# Altium integrated library TI_Logic_Specialty_Logic.IntLib: 2504 symbols (part 7 of 81)
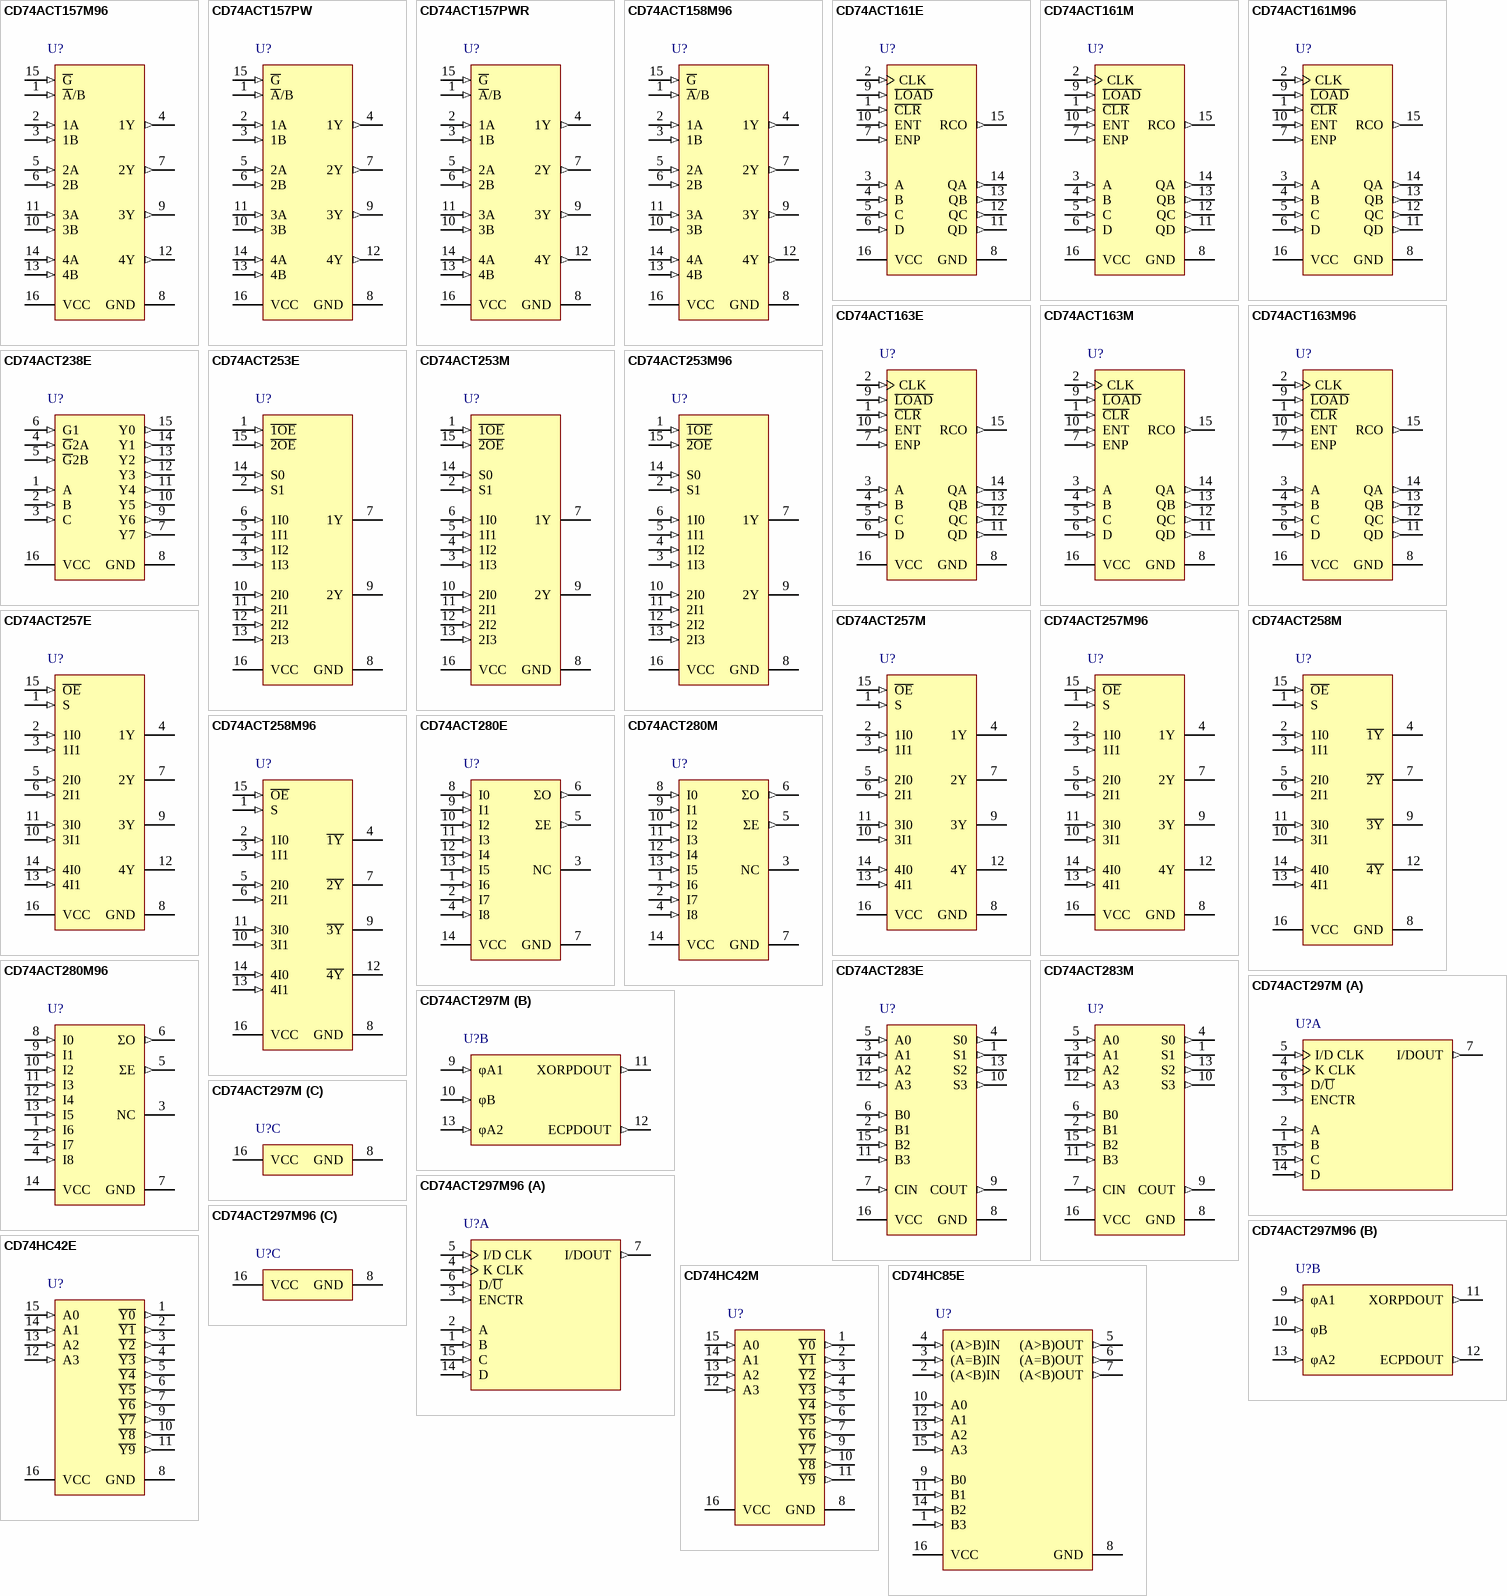
[diagram p110: symbols CD74ACT157M96 to CD74HC85E]

## CD74ACT253E
designator U?
Dual 4-Input Multiplexers with 3-State Outputs, N0016A, TUBE; Generic Part Number: CD74ACT253; Manufacturer: Texas Instruments; PartNumber: CD74ACT253E; VCC(Min)(V): 4.5; VCC(Max)(V): 5.5; Output Type: CMOS; Function: Encoder/Multiplexer; ICC @ Nom Voltage(Max)(mA): 0.08; Input Type: TTL; Bits(#): 4; F @ Nom Voltage(Max)(Mhz): 90; Configuration: 4：1; Channels(#): 2; Rating: Catalog; Technology Family: ACT; Voltage(Nom)(V): 5; Schmitt Trigger: No; Output Drive (IOL/IOH)(Max)(mA): 24/-24; tpd @ Nom Voltage(Max)(ns): 20; DatasheetVersion: SCHS247A; PackageReference: N0016A; Supplier 1: Mouser; Supplier Part Number 1: 595-CD74ACT253E; Supplier 2: Digi-Key; Supplier Part Number 2: 296-32992-5-ND; Operating Temperature Range(C): -55 to 125; Type: 3-State Output; Code_JEDEC: MS-001; ComponentLink1Description: Manufacturer URL; ComponentLink1URL: http://www.ti.com/; ComponentLink2Description: Datasheet; ComponentLink2URL: http://www.ti.com/lit/ds/symlink/cd74act253.pdf; ComponentLink3Description: Package Specification; ComponentLink3URL: http://www.ti.com/lit/ml/mpdi002c/mpdi002c.pdf
footprint N0016A (DIP, 16-Leads, Body 19.7x6.6mm, Pitch 2.54mm)
pins: 1 ~{1OE} (in), 2 S1 (in), 3 1I3 (in), 4 1I2 (in), 5 1I1 (in), 6 1I0 (in), 7 1Y (hiz), 8 GND (power), 9 2Y (hiz), 10 2I0 (in), 11 2I1 (in), 12 2I2 (in), 13 2I3 (in), 14 S0 (in), 15 ~{2OE} (in), 16 VCC (power)

## CD74ACT253M
designator U?
Dual 4-Input Multiplexers with 3-State Outputs, D0016A, TUBE; Generic Part Number: CD74ACT253; Manufacturer: Texas Instruments; PartNumber: CD74ACT253M; VCC(Min)(V): 4.5; VCC(Max)(V): 5.5; Output Type: CMOS; Function: Encoder/Multiplexer; ICC @ Nom Voltage(Max)(mA): 0.08; Input Type: TTL; Bits(#): 4; F @ Nom Voltage(Max)(Mhz): 90; Configuration: 4：1; Channels(#): 2; Rating: Catalog; Technology Family: ACT; Voltage(Nom)(V): 5; Schmitt Trigger: No; Output Drive (IOL/IOH)(Max)(mA): 24/-24; tpd @ Nom Voltage(Max)(ns): 20; DatasheetVersion: SCHS247A; PackageReference: D0016A; Supplier 1: Mouser; Supplier Part Number 1: 595-CD74ACT253M; Supplier 2: Digi-Key; Supplier Part Number 2: 296-23204-5-ND; Operating Temperature Range(C): -55 to 125; Type: 3-State Output; Code_JEDEC: MS-012 variation AC; ComponentLink1Description: Manufacturer URL; ComponentLink1URL: http://www.ti.com/; ComponentLink2Description: Datasheet; ComponentLink2URL: http://www.ti.com/lit/ds/symlink/cd74act253.pdf; ComponentLink3Description: Package Specification; ComponentLink3URL: http://www.ti.com/lit/ml/mpds178g/mpds178g.pdf
footprint D0016A_N (SOIC, 16-Leads, Body 10x4mm, Pitch 1.27mm, IPC Medium Density)
footprint D0016A_M (SOIC, 16-Leads, Body 10x4mm, Pitch 1.27mm, IPC Low Density)
footprint D0016A_L (SOIC, 16-Leads, Body 10x4mm, Pitch 1.27mm, IPC High Density)
pins: 1 ~{1OE} (in), 2 S1 (in), 3 1I3 (in), 4 1I2 (in), 5 1I1 (in), 6 1I0 (in), 7 1Y (hiz), 8 GND (power), 9 2Y (hiz), 10 2I0 (in), 11 2I1 (in), 12 2I2 (in), 13 2I3 (in), 14 S0 (in), 15 ~{2OE} (in), 16 VCC (power)

## CD74ACT253M96
designator U?
Dual 4-Input Multiplexers with 3-State Outputs, D0016A, LARGE T&R; Generic Part Number: CD74ACT253; Manufacturer: Texas Instruments; PartNumber: CD74ACT253M96; VCC(Min)(V): 4.5; VCC(Max)(V): 5.5; Output Type: CMOS; Function: Encoder/Multiplexer; ICC @ Nom Voltage(Max)(mA): 0.08; Input Type: TTL; Bits(#): 4; F @ Nom Voltage(Max)(Mhz): 90; Configuration: 4：1; Channels(#): 2; Rating: Catalog; Technology Family: ACT; Voltage(Nom)(V): 5; Schmitt Trigger: No; Output Drive (IOL/IOH)(Max)(mA): 24/-24; tpd @ Nom Voltage(Max)(ns): 20; DatasheetVersion: SCHS247A; PackageReference: D0016A; Supplier 1: Mouser; Supplier Part Number 1: 595-CD74ACT253M96; Supplier 2: Digi-Key; Supplier Part Number 2: CD74ACT253M96-ND; Operating Temperature Range(C): -55 to 125; Type: 3-State Output; Code_JEDEC: MS-012 variation AC; ComponentLink1Description: Manufacturer URL; ComponentLink1URL: http://www.ti.com/; ComponentLink2Description: Datasheet; ComponentLink2URL: http://www.ti.com/lit/ds/symlink/cd74act253.pdf; ComponentLink3Description: Package Specification; ComponentLink3URL: http://www.ti.com/lit/ml/mpds178g/mpds178g.pdf
footprint D0016A_N (SOIC, 16-Leads, Body 10x4mm, Pitch 1.27mm, IPC Medium Density)
footprint D0016A_M (SOIC, 16-Leads, Body 10x4mm, Pitch 1.27mm, IPC Low Density)
footprint D0016A_L (SOIC, 16-Leads, Body 10x4mm, Pitch 1.27mm, IPC High Density)
pins: 1 ~{1OE} (in), 2 S1 (in), 3 1I3 (in), 4 1I2 (in), 5 1I1 (in), 6 1I0 (in), 7 1Y (hiz), 8 GND (power), 9 2Y (hiz), 10 2I0 (in), 11 2I1 (in), 12 2I2 (in), 13 2I3 (in), 14 S0 (in), 15 ~{2OE} (in), 16 VCC (power)

## CD74ACT257E
designator U?
Quad 2-Input Non-Inverting Multiplexers with 3-State Outputs, N0016A, TUBE; Generic Part Number: CD74ACT257; Manufacturer: Texas Instruments; PartNumber: CD74ACT257E; VCC(Min)(V): 4.5; VCC(Max)(V): 5.5; Output Type: CMOS; Function: Encoder/Multiplexer; ICC @ Nom Voltage(Max)(mA): 0.08; Input Type: TTL; Bits(#): 2; F @ Nom Voltage(Max)(Mhz): 90; Configuration: 2：1; Channels(#): 4; Rating: Catalog; Technology Family: ACT; Voltage(Nom)(V): 5; Schmitt Trigger: No; Output Drive (IOL/IOH)(Max)(mA): 24/-24; tpd @ Nom Voltage(Max)(ns): 9.7; DatasheetVersion: SCHS248A; PackageReference: N0016A; Supplier 1: Mouser; Supplier Part Number 1: 595-CD74ACT257E; Supplier 2: Digi-Key; Supplier Part Number 2: 296-32993-5-ND; Operating Temperature Range(C): -55 to 125; Type: 3-State Output; Code_JEDEC: MS-001; ComponentLink1Description: Manufacturer URL; ComponentLink1URL: http://www.ti.com/; ComponentLink2Description: Datasheet; ComponentLink2URL: http://www.ti.com/lit/ds/symlink/cd74act257.pdf; ComponentLink3Description: Package Specification; ComponentLink3URL: http://www.ti.com/lit/ml/mpdi002c/mpdi002c.pdf
footprint N0016A (DIP, 16-Leads, Body 19.7x6.6mm, Pitch 2.54mm)
pins: 1 S (in), 2 1I0 (in), 3 1I1 (in), 4 1Y (hiz), 5 2I0 (in), 6 2I1 (in), 7 2Y (hiz), 8 GND (power), 9 3Y (hiz), 10 3I1 (in), 11 3I0 (in), 12 4Y (hiz), 13 4I1 (in), 14 4I0 (in), 15 ~{OE} (in), 16 VCC (power)

## CD74ACT257M
designator U?
Quad 2-Input Non-Inverting Multiplexers with 3-State Outputs, D0016A, TUBE; Generic Part Number: CD74ACT257; Manufacturer: Texas Instruments; PartNumber: CD74ACT257M; VCC(Min)(V): 4.5; VCC(Max)(V): 5.5; Output Type: CMOS; Function: Encoder/Multiplexer; ICC @ Nom Voltage(Max)(mA): 0.08; Input Type: TTL; Bits(#): 2; F @ Nom Voltage(Max)(Mhz): 90; Configuration: 2：1; Channels(#): 4; Rating: Catalog; Technology Family: ACT; Voltage(Nom)(V): 5; Schmitt Trigger: No; Output Drive (IOL/IOH)(Max)(mA): 24/-24; tpd @ Nom Voltage(Max)(ns): 9.7; DatasheetVersion: SCHS248A; PackageReference: D0016A; Supplier 1: Mouser; Supplier Part Number 1: 595-CD74ACT257M; Supplier 2: Digi-Key; Supplier Part Number 2: 296-32994-5-ND; Operating Temperature Range(C): -55 to 125; Type: 3-State Output; Code_JEDEC: MS-012 variation AC; ComponentLink1Description: Manufacturer URL; ComponentLink1URL: http://www.ti.com/; ComponentLink2Description: Datasheet; ComponentLink2URL: http://www.ti.com/lit/ds/symlink/cd74act257.pdf; ComponentLink3Description: Package Specification; ComponentLink3URL: http://www.ti.com/lit/ml/mpds178g/mpds178g.pdf
footprint D0016A_N (SOIC, 16-Leads, Body 10x4mm, Pitch 1.27mm, IPC Medium Density)
footprint D0016A_M (SOIC, 16-Leads, Body 10x4mm, Pitch 1.27mm, IPC Low Density)
footprint D0016A_L (SOIC, 16-Leads, Body 10x4mm, Pitch 1.27mm, IPC High Density)
pins: 1 S (in), 2 1I0 (in), 3 1I1 (in), 4 1Y (hiz), 5 2I0 (in), 6 2I1 (in), 7 2Y (hiz), 8 GND (power), 9 3Y (hiz), 10 3I1 (in), 11 3I0 (in), 12 4Y (hiz), 13 4I1 (in), 14 4I0 (in), 15 ~{OE} (in), 16 VCC (power)

## CD74ACT257M96
designator U?
Quad 2-Input Non-Inverting Multiplexers with 3-State Outputs, D0016A, LARGE T&R; Generic Part Number: CD74ACT257; Manufacturer: Texas Instruments; PartNumber: CD74ACT257M96; VCC(Min)(V): 4.5; VCC(Max)(V): 5.5; Output Type: CMOS; Function: Encoder/Multiplexer; ICC @ Nom Voltage(Max)(mA): 0.08; Input Type: TTL; Bits(#): 2; F @ Nom Voltage(Max)(Mhz): 90; Configuration: 2：1; Channels(#): 4; Rating: Catalog; Technology Family: ACT; Voltage(Nom)(V): 5; Schmitt Trigger: No; Output Drive (IOL/IOH)(Max)(mA): 24/-24; tpd @ Nom Voltage(Max)(ns): 9.7; DatasheetVersion: SCHS248A; PackageReference: D0016A; Supplier 1: Mouser; Supplier Part Number 1: 595-CD74ACT257M96; Supplier 2: Digi-Key; Supplier Part Number 2: 296-31554-2-ND; Supplier 3: Digi-Key; Supplier Part Number 3: 296-31554-1-ND; Supplier 4: Digi-Key; Supplier Part Number 4: 296-31554-6-ND; Operating Temperature Range(C): -55 to 125; Type: 3-State Output; Code_JEDEC: MS-012 variation AC; ComponentLink1Description: Manufacturer URL; ComponentLink1URL: http://www.ti.com/; ComponentLink2Description: Datasheet; ComponentLink2URL: http://www.ti.com/lit/ds/symlink/cd74act257.pdf; ComponentLink3Description: Package Specification; ComponentLink3URL: http://www.ti.com/lit/ml/mpds178g/mpds178g.pdf
footprint D0016A_N (SOIC, 16-Leads, Body 10x4mm, Pitch 1.27mm, IPC Medium Density)
footprint D0016A_M (SOIC, 16-Leads, Body 10x4mm, Pitch 1.27mm, IPC Low Density)
footprint D0016A_L (SOIC, 16-Leads, Body 10x4mm, Pitch 1.27mm, IPC High Density)
pins: 1 S (in), 2 1I0 (in), 3 1I1 (in), 4 1Y (hiz), 5 2I0 (in), 6 2I1 (in), 7 2Y (hiz), 8 GND (power), 9 3Y (hiz), 10 3I1 (in), 11 3I0 (in), 12 4Y (hiz), 13 4I1 (in), 14 4I0 (in), 15 ~{OE} (in), 16 VCC (power)

## CD74ACT258M
designator U?
Quad 2-Input Inverting Multiplexers with 3-State Outputs, D0016A, TUBE; Generic Part Number: CD74ACT258; Manufacturer: Texas Instruments; PartNumber: CD74ACT258M; VCC(Min)(V): 4.5; VCC(Max)(V): 5.5; Output Type: CMOS; Function: Encoder/Multiplexer; ICC @ Nom Voltage(Max)(mA): 0.08; Input Type: TTL; Bits(#): 2; F @ Nom Voltage(Max)(Mhz): 90; Configuration: 2：1; Channels(#): 4; Rating: Catalog; Technology Family: ACT; Voltage(Nom)(V): 5; Schmitt Trigger: No; Output Drive (IOL/IOH)(Max)(mA): 24/-24; tpd @ Nom Voltage(Max)(ns): 9.7; DatasheetVersion: SCHS248A; PackageReference: D0016A; Supplier 1: Mouser; Supplier Part Number 1: 595-CD74ACT258M; Supplier 2: Digi-Key; Supplier Part Number 2: CD74ACT258M-ND; Operating Temperature Range(C): -55 to 125; Type: 3-State Output; Code_JEDEC: MS-012 variation AC; ComponentLink1Description: Manufacturer URL; ComponentLink1URL: http://www.ti.com/; ComponentLink2Description: Datasheet; ComponentLink2URL: http://www.ti.com/lit/ds/symlink/cd74act258.pdf; ComponentLink3Description: Package Specification; ComponentLink3URL: http://www.ti.com/lit/ml/mpds178g/mpds178g.pdf
footprint D0016A_N (SOIC, 16-Leads, Body 10x4mm, Pitch 1.27mm, IPC Medium Density)
footprint D0016A_M (SOIC, 16-Leads, Body 10x4mm, Pitch 1.27mm, IPC Low Density)
footprint D0016A_L (SOIC, 16-Leads, Body 10x4mm, Pitch 1.27mm, IPC High Density)
pins: 1 S (in), 2 1I0 (in), 3 1I1 (in), 4 ~{1Y} (hiz), 5 2I0 (in), 6 2I1 (in), 7 ~{2Y} (hiz), 8 GND (power), 9 ~{3Y} (hiz), 10 3I1 (in), 11 3I0 (in), 12 ~{4Y} (hiz), 13 4I1 (in), 14 4I0 (in), 15 ~{OE} (in), 16 VCC (power)

## CD74ACT258M96
designator U?
Quad 2-Input Inverting Multiplexers with 3-State Outputs, D0016A, LARGE T&R; Generic Part Number: CD74ACT258; Manufacturer: Texas Instruments; PartNumber: CD74ACT258M96; VCC(Min)(V): 4.5; VCC(Max)(V): 5.5; Output Type: CMOS; Function: Encoder/Multiplexer; ICC @ Nom Voltage(Max)(mA): 0.08; Input Type: TTL; Bits(#): 2; F @ Nom Voltage(Max)(Mhz): 90; Configuration: 2：1; Channels(#): 4; Rating: Catalog; Technology Family: ACT; Voltage(Nom)(V): 5; Schmitt Trigger: No; Output Drive (IOL/IOH)(Max)(mA): 24/-24; tpd @ Nom Voltage(Max)(ns): 9.7; DatasheetVersion: SCHS248A; PackageReference: D0016A; Supplier 1: Mouser; Supplier Part Number 1: 595-CD74ACT258M96; Supplier 2: Digi-Key; Supplier Part Number 2: 296-38063-2-ND; Supplier 3: Digi-Key; Supplier Part Number 3: 296-38063-1-ND; Supplier 4: Digi-Key; Supplier Part Number 4: 296-38063-6-ND; Operating Temperature Range(C): -55 to 125; Type: 3-State Output; Code_JEDEC: MS-012 variation AC; ComponentLink1Description: Manufacturer URL; ComponentLink1URL: http://www.ti.com/; ComponentLink2Description: Datasheet; ComponentLink2URL: http://www.ti.com/lit/ds/symlink/cd74act258.pdf; ComponentLink3Description: Package Specification; ComponentLink3URL: http://www.ti.com/lit/ml/mpds178g/mpds178g.pdf
footprint D0016A_N (SOIC, 16-Leads, Body 10x4mm, Pitch 1.27mm, IPC Medium Density)
footprint D0016A_M (SOIC, 16-Leads, Body 10x4mm, Pitch 1.27mm, IPC Low Density)
footprint D0016A_L (SOIC, 16-Leads, Body 10x4mm, Pitch 1.27mm, IPC High Density)
pins: 1 S (in), 2 1I0 (in), 3 1I1 (in), 4 ~{1Y} (hiz), 5 2I0 (in), 6 2I1 (in), 7 ~{2Y} (hiz), 8 GND (power), 9 ~{3Y} (hiz), 10 3I1 (in), 11 3I0 (in), 12 ~{4Y} (hiz), 13 4I1 (in), 14 4I0 (in), 15 ~{OE} (in), 16 VCC (power)

## CD74ACT280E
designator U?
9-Bit Odd/Even Parity Generator/Checker, N0014A, TUBE; Generic Part Number: CD74ACT280; Manufacturer: Texas Instruments; PartNumber: CD74ACT280E; VCC(Min)(V): 4.5; VCC(Max)(V): 5.5; Output Type: CMOS; Inputs: 9; ICC @ Nom Voltage(Max)(mA): 0.08; Input Type: TTL; Bits(#): 2; F @ Nom Voltage(Max)(Mhz): 90; Rating: Catalog; Technology Family: ACT; Voltage(Nom)(V): 5; Schmitt Trigger: No; Output Drive (IOL/IOH)(Max)(mA): 75/-75; tpd @ Nom Voltage(Max)(ns): 19.6; DatasheetVersion: SCHS250A; PackageReference: N0014A; Supplier 1: Mouser; Supplier Part Number 1: 595-CD74ACT280E; Supplier 2: Digi-Key; Supplier Part Number 2: CD74ACT280E-ND; Function: Parity; Operating Temperature Range(C): -55 to 125; Type: Other; Code_JEDEC: MS-001; ComponentLink1Description: Manufacturer URL; ComponentLink1URL: http://www.ti.com/; ComponentLink2Description: Datasheet; ComponentLink2URL: http://www.ti.com/lit/ds/symlink/cd74act280.pdf; ComponentLink3Description: Package Specification; ComponentLink3URL: http://www.ti.com/lit/ml/mpdi002c/mpdi002c.pdf
footprint N0014A (DIP, 14-Leads, Body 19.7x6.6mm, Pitch 2.54mm)
pins: 1 I6 (in), 2 I7 (in), 3 NC, 4 I8 (in), 5 ΣE (out), 6 ΣO (out), 7 GND (power), 8 I0 (in), 9 I1 (in), 10 I2 (in), 11 I3 (in), 12 I4 (in), 13 I5 (in), 14 VCC (power)

## CD74ACT280M
designator U?
9-Bit Odd/Even Parity Generator/Checker, D0014A, TUBE; Generic Part Number: CD74ACT280; Manufacturer: Texas Instruments; PartNumber: CD74ACT280M; VCC(Min)(V): 4.5; VCC(Max)(V): 5.5; Output Type: CMOS; Inputs: 9; ICC @ Nom Voltage(Max)(mA): 0.08; Input Type: TTL; Bits(#): 2; F @ Nom Voltage(Max)(Mhz): 90; Rating: Catalog; Technology Family: ACT; Voltage(Nom)(V): 5; Schmitt Trigger: No; Output Drive (IOL/IOH)(Max)(mA): 75/-75; tpd @ Nom Voltage(Max)(ns): 19.6; DatasheetVersion: SCHS250A; PackageReference: D0014A; Supplier 1: Mouser; Supplier Part Number 1: 595-CD74ACT280M; Supplier 2: Digi-Key; Supplier Part Number 2: CD74ACT280M-ND; Function: Parity; Operating Temperature Range(C): -55 to 125; Type: Other; Code_JEDEC: MS-012; ComponentLink1Description: Manufacturer URL; ComponentLink1URL: http://www.ti.com/; ComponentLink2Description: Datasheet; ComponentLink2URL: http://www.ti.com/lit/ds/symlink/cd74act280.pdf; ComponentLink3Description: Package Specification; ComponentLink3URL: http://www.ti.com/lit/ml/mpds177g/mpds177g.pdf
footprint D0014A_N (SOIC, 14-Leads, Body 8.75x4mm, Pitch 1.27mm, IPC Medium Density)
footprint D0014A_M (SOIC, 14-Leads, Body 8.75x4mm, Pitch 1.27mm, IPC Low Density)
footprint D0014A_L (SOIC, 14-Leads, Body 8.75x4mm, Pitch 1.27mm, IPC High Density)
pins: 1 I6 (in), 2 I7 (in), 3 NC, 4 I8 (in), 5 ΣE (out), 6 ΣO (out), 7 GND (power), 8 I0 (in), 9 I1 (in), 10 I2 (in), 11 I3 (in), 12 I4 (in), 13 I5 (in), 14 VCC (power)

## CD74ACT280M96
designator U?
9-Bit Odd/Even Parity Generator/Checker, D0014A, LARGE T&R; Generic Part Number: CD74ACT280; Manufacturer: Texas Instruments; PartNumber: CD74ACT280M96; VCC(Min)(V): 4.5; VCC(Max)(V): 5.5; Output Type: CMOS; Inputs: 9; ICC @ Nom Voltage(Max)(mA): 0.08; Input Type: TTL; Bits(#): 2; F @ Nom Voltage(Max)(Mhz): 90; Rating: Catalog; Technology Family: ACT; Voltage(Nom)(V): 5; Schmitt Trigger: No; Output Drive (IOL/IOH)(Max)(mA): 75/-75; tpd @ Nom Voltage(Max)(ns): 19.6; DatasheetVersion: SCHS250A; PackageReference: D0014A; Supplier 1: Mouser; Supplier Part Number 1: 595-CD74ACT280M96; Supplier 2: Digi-Key; Supplier Part Number 2: 296-12768-2-ND; Supplier 3: Digi-Key; Supplier Part Number 3: 296-12768-1-ND; Supplier 4: Digi-Key; Supplier Part Number 4: 296-12768-6-ND; Function: Parity; Operating Temperature Range(C): -55 to 125; Type: Other; Code_JEDEC: MS-012; ComponentLink1Description: Manufacturer URL; ComponentLink1URL: http://www.ti.com/; ComponentLink2Description: Datasheet; ComponentLink2URL: http://www.ti.com/lit/ds/symlink/cd74act280.pdf; ComponentLink3Description: Package Specification; ComponentLink3URL: http://www.ti.com/lit/ml/mpds177g/mpds177g.pdf
footprint D0014A_N (SOIC, 14-Leads, Body 8.75x4mm, Pitch 1.27mm, IPC Medium Density)
footprint D0014A_M (SOIC, 14-Leads, Body 8.75x4mm, Pitch 1.27mm, IPC Low Density)
footprint D0014A_L (SOIC, 14-Leads, Body 8.75x4mm, Pitch 1.27mm, IPC High Density)
pins: 1 I6 (in), 2 I7 (in), 3 NC, 4 I8 (in), 5 ΣE (out), 6 ΣO (out), 7 GND (power), 8 I0 (in), 9 I1 (in), 10 I2 (in), 11 I3 (in), 12 I4 (in), 13 I5 (in), 14 VCC (power)

## CD74ACT283E
designator U?
4-Bit Binary Full Adder with Fast Carry, N0016A, TUBE; Generic Part Number: CD74ACT283; Manufacturer: Texas Instruments; PartNumber: CD74ACT283E; VCC(Min)(V): 4.5; VCC(Max)(V): 5.5; Output Type: CMOS; Inputs: 9; Function: Arithmetic; ICC @ Nom Voltage(Max)(mA): 0.08; Input Type: TTL; Bits(#): 4; F @ Nom Voltage(Max)(Mhz): 90; Rating: Catalog; Technology Family: ACT; Voltage(Nom)(V): 5; Schmitt Trigger: No; Output Drive (IOL/IOH)(Max)(mA): 75/-75; tpd @ Nom Voltage(Max)(ns): 16; DatasheetVersion: SCHS251D; PackageReference: N0016A; Supplier 1: Mouser; Supplier Part Number 1: 595-CD74ACT283E; Supplier 2: Digi-Key; Supplier Part Number 2: 296-4275-5-ND; Operating Temperature Range(C): -55 to 125; Type: Binary; Code_JEDEC: MS-001; ComponentLink1Description: Manufacturer URL; ComponentLink1URL: http://www.ti.com/; ComponentLink2Description: Datasheet; ComponentLink2URL: http://www.ti.com/lit/ds/symlink/cd74act283.pdf; ComponentLink3Description: Package Specification; ComponentLink3URL: http://www.ti.com/lit/ml/mpdi002c/mpdi002c.pdf
footprint N0016A (DIP, 16-Leads, Body 19.7x6.6mm, Pitch 2.54mm)
pins: 1 S1 (out), 2 B1 (in), 3 A1 (in), 4 S0 (out), 5 A0 (in), 6 B0 (in), 7 CIN (in), 8 GND (power), 9 COUT (out), 10 S3 (out), 11 B3 (in), 12 A3 (in), 13 S2 (out), 14 A2 (in), 15 B2 (in), 16 VCC (power)

## CD74ACT283M
designator U?
4-Bit Binary Full Adder with Fast Carry, D0016A, TUBE; Generic Part Number: CD74ACT283; Manufacturer: Texas Instruments; PartNumber: CD74ACT283M; VCC(Min)(V): 4.5; VCC(Max)(V): 5.5; Output Type: CMOS; Inputs: 9; Function: Arithmetic; ICC @ Nom Voltage(Max)(mA): 0.08; Input Type: TTL; Bits(#): 4; F @ Nom Voltage(Max)(Mhz): 90; Rating: Catalog; Technology Family: ACT; Voltage(Nom)(V): 5; Schmitt Trigger: No; Output Drive (IOL/IOH)(Max)(mA): 75/-75; tpd @ Nom Voltage(Max)(ns): 16; DatasheetVersion: SCHS251D; PackageReference: D0016A; Supplier 1: Mouser; Supplier Part Number 1: 595-CD74ACT283M; Supplier 2: Digi-Key; Supplier Part Number 2: 296-32996-5-ND; Operating Temperature Range(C): -55 to 125; Type: Binary; Code_JEDEC: MS-012 variation AC; ComponentLink1Description: Manufacturer URL; ComponentLink1URL: http://www.ti.com/; ComponentLink2Description: Datasheet; ComponentLink2URL: http://www.ti.com/lit/ds/symlink/cd74act283.pdf; ComponentLink3Description: Package Specification; ComponentLink3URL: http://www.ti.com/lit/ml/mpds178g/mpds178g.pdf
footprint D0016A_N (SOIC, 16-Leads, Body 10x4mm, Pitch 1.27mm, IPC Medium Density)
footprint D0016A_M (SOIC, 16-Leads, Body 10x4mm, Pitch 1.27mm, IPC Low Density)
footprint D0016A_L (SOIC, 16-Leads, Body 10x4mm, Pitch 1.27mm, IPC High Density)
pins: 1 S1 (out), 2 B1 (in), 3 A1 (in), 4 S0 (out), 5 A0 (in), 6 B0 (in), 7 CIN (in), 8 GND (power), 9 COUT (out), 10 S3 (out), 11 B3 (in), 12 A3 (in), 13 S2 (out), 14 A2 (in), 15 B2 (in), 16 VCC (power)

## CD74ACT297M
designator U?
Digital Phase-Locked-Loop, D0016A, TUBE; Generic Part Number: CD74ACT297; Manufacturer: Texas Instruments; PartNumber: CD74ACT297M; VCC(Min)(V): 4.5; VCC(Max)(V): 5.5; Output Type: CMOS; ICC @ Nom Voltage(Max)(mA): 0.08; Input Type: TTL; Bits(#): 1; F @ Nom Voltage(Max)(Mhz): 90; Rating: Catalog; Technology Family: ACT; Voltage(Nom)(V): 5; Schmitt Trigger: No; Output Drive (IOL/IOH)(Max)(mA): 75/-75; tpd @ Nom Voltage(Max)(ns): 30; DatasheetVersion: SCHS297D; PackageReference: D0016A; Supplier 1: Mouser; Supplier Part Number 1: 595-CD74ACT297M; Supplier 2: Digi-Key; Supplier Part Number 2: 296-4276-5-ND; Operating Temperature Range(C): -55 to 125; ComponentLink1Description: Manufacturer URL; ComponentLink1URL: http://www.ti.com/; ComponentLink2Description: Datasheet; ComponentLink2URL: http://www.ti.com/lit/ds/symlink/cd74act297.pdf
footprint D0016A_N (SOIC, 16-Leads, Body 10x4mm, Pitch 1.27mm, IPC Medium Density)
footprint D0016A_M (SOIC, 16-Leads, Body 10x4mm, Pitch 1.27mm, IPC Low Density)
footprint D0016A_L (SOIC, 16-Leads, Body 10x4mm, Pitch 1.27mm, IPC High Density)
part A pins: 1 B (in), 2 A (in), 3 ENCTR (in), 4 K CLK (in), 5 I/D CLK (in), 6 D/~{U} (in), 7 I/DOUT (out), 14 D (in), 15 C (in)
part B pins: 9 φA1 (in), 10 φB (in), 11 XORPDOUT (out), 12 ECPDOUT (out), 13 φA2 (in)
part C pins: 8 GND (power), 16 VCC (power)

## CD74ACT297M96
designator U?
Digital Phase-Locked-Loop, D0016A, LARGE T&R; Generic Part Number: CD74ACT297; Manufacturer: Texas Instruments; PartNumber: CD74ACT297M96; VCC(Min)(V): 4.5; VCC(Max)(V): 5.5; Output Type: CMOS; ICC @ Nom Voltage(Max)(mA): 0.08; Input Type: TTL; Bits(#): 1; F @ Nom Voltage(Max)(Mhz): 90; Rating: Catalog; Technology Family: ACT; Voltage(Nom)(V): 5; Schmitt Trigger: No; Output Drive (IOL/IOH)(Max)(mA): 75/-75; tpd @ Nom Voltage(Max)(ns): 30; DatasheetVersion: SCHS297D; PackageReference: D0016A; Supplier 1: Mouser; Supplier Part Number 1: 595-CD74ACT297M96; Supplier 2: Digi-Key; Supplier Part Number 2: CD74ACT297M96-ND; Operating Temperature Range(C): -55 to 125; ComponentLink1Description: Manufacturer URL; ComponentLink1URL: http://www.ti.com/; ComponentLink2Description: Datasheet; ComponentLink2URL: http://www.ti.com/lit/ds/symlink/cd74act297.pdf
footprint D0016A_N (SOIC, 16-Leads, Body 10x4mm, Pitch 1.27mm, IPC Medium Density)
footprint D0016A_M (SOIC, 16-Leads, Body 10x4mm, Pitch 1.27mm, IPC Low Density)
footprint D0016A_L (SOIC, 16-Leads, Body 10x4mm, Pitch 1.27mm, IPC High Density)
part A pins: 1 B (in), 2 A (in), 3 ENCTR (in), 4 K CLK (in), 5 I/D CLK (in), 6 D/~{U} (in), 7 I/DOUT (out), 14 D (in), 15 C (in)
part B pins: 9 φA1 (in), 10 φB (in), 11 XORPDOUT (out), 12 ECPDOUT (out), 13 φA2 (in)
part C pins: 8 GND (power), 16 VCC (power)

## CD74HC42E
designator U?
High Speed CMOS Logic 1-of-10 BCD to Decimal Decoder, N0016A, TUBE; Generic Part Number: CD74HC42; Manufacturer: Texas Instruments; PartNumber: CD74HC42E; VCC(Min)(V): 2; VCC(Max)(V): 6; Function: Decoder/Demultiplexer; ICC @ Nom Voltage(Max)(mA): 0.08; Input Type: LVTTL/CMOS; Bits(#): 10; F @ Nom Voltage(Max)(Mhz): 28; Configuration: 4：10; Channels(#): 1; Rating: Catalog; Technology Family: HC; Voltage(Nom)(V): 3.3,5; Schmitt Trigger: No; Output Drive (IOL/IOH)(Max)(mA): 5.2/-5.2; tpd @ Nom Voltage(Max)(ns): 30; DatasheetVersion: SCHS133C; PackageReference: N0016A; Supplier 1: Mouser; Supplier Part Number 1: 595-CD74HC42E; Supplier 2: Digi-Key; Supplier Part Number 2: 296-33091-5-ND; Output Type: CMOS; Operating Temperature Range(C): -55 to 125; Type: Standard; Code_JEDEC: MS-001; ComponentLink1Description: Manufacturer URL; ComponentLink1URL: http://www.ti.com/; ComponentLink2Description: Datasheet; ComponentLink2URL: http://www.ti.com/lit/ds/symlink/cd74hc42.pdf; ComponentLink3Description: Package Specification; ComponentLink3URL: http://www.ti.com/lit/ml/mpdi002c/mpdi002c.pdf
footprint N0016A (DIP, 16-Leads, Body 19.7x6.6mm, Pitch 2.54mm)
pins: 1 ~{Y0} (out), 2 ~{Y1} (out), 3 ~{Y2} (out), 4 ~{Y3} (out), 5 ~{Y4} (out), 6 ~{Y5} (out), 7 ~{Y6} (out), 8 GND (power), 9 ~{Y7} (out), 10 ~{Y8} (out), 11 ~{Y9} (out), 12 A3 (in), 13 A2 (in), 14 A1 (in), 15 A0 (in), 16 VCC (power)

## CD74HC42M
designator U?
High Speed CMOS Logic 1-of-10 BCD to Decimal Decoder, D0016A, TUBE; Generic Part Number: CD74HC42; Manufacturer: Texas Instruments; PartNumber: CD74HC42M; VCC(Min)(V): 2; VCC(Max)(V): 6; Function: Decoder/Demultiplexer; ICC @ Nom Voltage(Max)(mA): 0.08; Input Type: LVTTL/CMOS; Bits(#): 10; F @ Nom Voltage(Max)(Mhz): 28; Configuration: 4：10; Channels(#): 1; Rating: Catalog; Technology Family: HC; Voltage(Nom)(V): 3.3,5; Schmitt Trigger: No; Output Drive (IOL/IOH)(Max)(mA): 5.2/-5.2; tpd @ Nom Voltage(Max)(ns): 30; DatasheetVersion: SCHS133C; PackageReference: D0016A; Supplier 1: Mouser; Supplier Part Number 1: 595-CD74HC42M; Supplier 2: Digi-Key; Supplier Part Number 2: 296-33092-5-ND; Output Type: CMOS; Operating Temperature Range(C): -55 to 125; Type: Standard; Code_JEDEC: MS-012 variation AC; ComponentLink1Description: Manufacturer URL; ComponentLink1URL: http://www.ti.com/; ComponentLink2Description: Datasheet; ComponentLink2URL: http://www.ti.com/lit/ds/symlink/cd74hc42.pdf; ComponentLink3Description: Package Specification; ComponentLink3URL: http://www.ti.com/lit/ml/mpds178g/mpds178g.pdf
footprint D0016A_N (SOIC, 16-Leads, Body 10x4mm, Pitch 1.27mm, IPC Medium Density)
footprint D0016A_M (SOIC, 16-Leads, Body 10x4mm, Pitch 1.27mm, IPC Low Density)
footprint D0016A_L (SOIC, 16-Leads, Body 10x4mm, Pitch 1.27mm, IPC High Density)
pins: 1 ~{Y0} (out), 2 ~{Y1} (out), 3 ~{Y2} (out), 4 ~{Y3} (out), 5 ~{Y4} (out), 6 ~{Y5} (out), 7 ~{Y6} (out), 8 GND (power), 9 ~{Y7} (out), 10 ~{Y8} (out), 11 ~{Y9} (out), 12 A3 (in), 13 A2 (in), 14 A1 (in), 15 A0 (in), 16 VCC (power)

## CD74HC85E
designator U?
4-Bit Magnitude Comparator, N0016A, TUBE; Generic Part Number: CD74HC85; Manufacturer: Texas Instruments; PartNumber: CD74HC85E; VCC(Min)(V): 2; VCC(Max)(V): 6; Output Type: CMOS; ICC @ Nom Voltage(Max)(mA): 0.08; Bits(#): 4; F @ Nom Voltage(Max)(Mhz): 70; Rating: Catalog; Technology Family: HC; Schmitt Trigger: No; Output Drive (IOL/IOH)(Max)(mA): 5.2/-5.2; tpd @ Nom Voltage(Max)(ns): 42; DatasheetVersion: SCHS136E; PackageReference: N0016A; Supplier 1: Mouser; Supplier Part Number 1: 595-CD74HC85E; Supplier 2: Digi-Key; Supplier Part Number 2: 296-12821-5-ND; Input Type: CMOS; Operating Temperature Range(C): -55 to 125; Voltage(Nom)(V): 6; ComponentLink1Description: Manufacturer URL; ComponentLink1URL: http://www.ti.com/; ComponentLink2Description: Datasheet; ComponentLink2URL: http://www.ti.com/lit/ds/symlink/cd74hc85.pdf
footprint N0016A (DIP, 16-Leads, Body 19.7x6.6mm, Pitch 2.54mm)
pins: 1 B3 (in), 2 (A<B)IN (in), 3 (A=B)IN (in), 4 (A>B)IN (in), 5 (A>B)OUT (out), 6 (A=B)OUT (out), 7 (A<B)OUT (out), 8 GND (power), 9 B0 (in), 10 A0 (in), 11 B1 (in), 12 A1 (in), 13 A2 (in), 14 B2 (in), 15 A3 (in), 16 VCC (power)

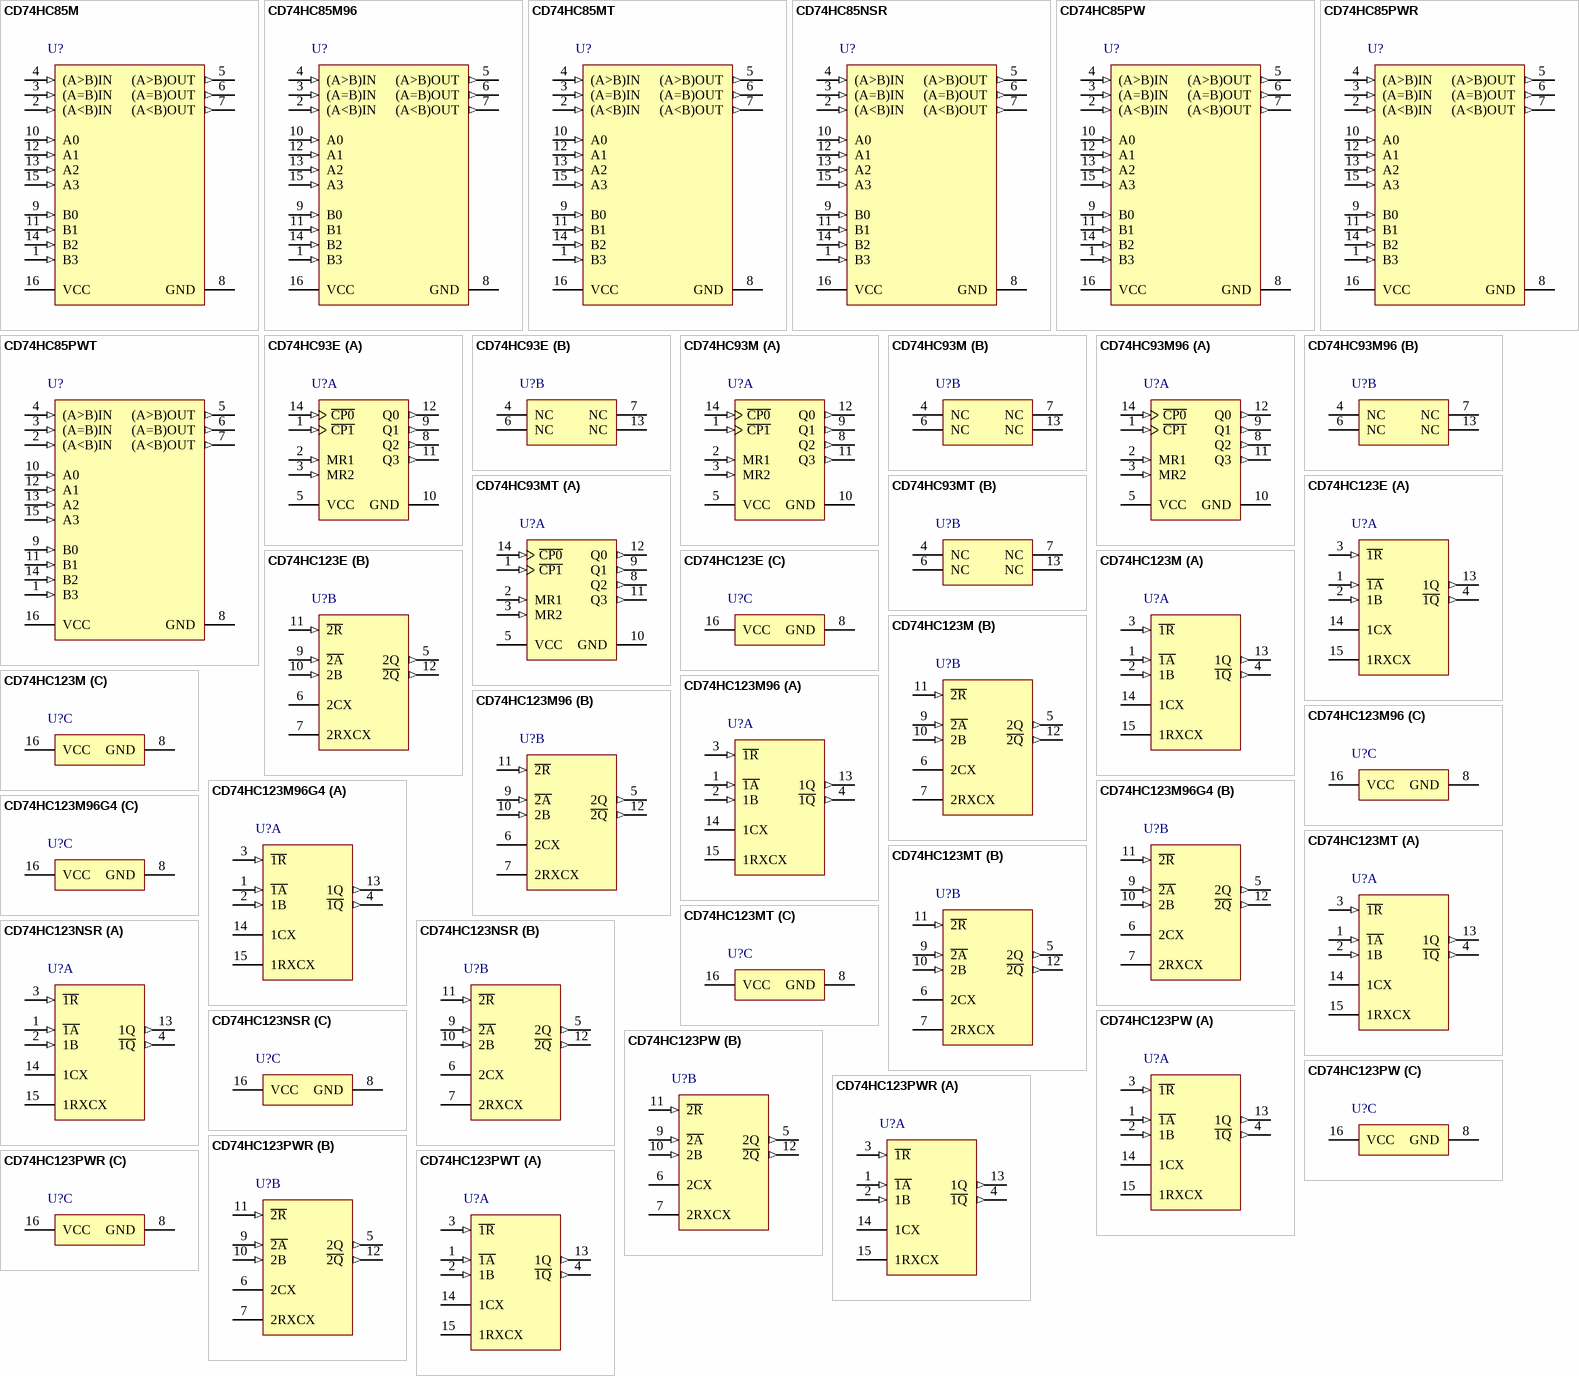
[diagram p9: symbols CD74HC85M to CD74HC123PWT]

## CD74HC85M
designator U?
4-Bit Magnitude Comparator, D0016A, TUBE; Generic Part Number: CD74HC85; Manufacturer: Texas Instruments; PartNumber: CD74HC85M; VCC(Min)(V): 2; VCC(Max)(V): 6; Output Type: CMOS; ICC @ Nom Voltage(Max)(mA): 0.08; Bits(#): 4; F @ Nom Voltage(Max)(Mhz): 70; Rating: Catalog; Technology Family: HC; Schmitt Trigger: No; Output Drive (IOL/IOH)(Max)(mA): 5.2/-5.2; tpd @ Nom Voltage(Max)(ns): 42; DatasheetVersion: SCHS136E; PackageReference: D0016A; Supplier 1: Mouser; Supplier Part Number 1: 595-CD74HC85M; Supplier 2: Digi-Key; Supplier Part Number 2: 296-9242-5-ND; Input Type: CMOS; Operating Temperature Range(C): -55 to 125; Voltage(Nom)(V): 6; ComponentLink1Description: Manufacturer URL; ComponentLink1URL: http://www.ti.com/; ComponentLink2Description: Datasheet; ComponentLink2URL: http://www.ti.com/lit/ds/symlink/cd74hc85.pdf
footprint D0016A_N (SOIC, 16-Leads, Body 10x4mm, Pitch 1.27mm, IPC Medium Density)
footprint D0016A_M (SOIC, 16-Leads, Body 10x4mm, Pitch 1.27mm, IPC Low Density)
footprint D0016A_L (SOIC, 16-Leads, Body 10x4mm, Pitch 1.27mm, IPC High Density)
pins: 1 B3 (in), 2 (A<B)IN (in), 3 (A=B)IN (in), 4 (A>B)IN (in), 5 (A>B)OUT (out), 6 (A=B)OUT (out), 7 (A<B)OUT (out), 8 GND (power), 9 B0 (in), 10 A0 (in), 11 B1 (in), 12 A1 (in), 13 A2 (in), 14 B2 (in), 15 A3 (in), 16 VCC (power)

## CD74HC85M96
designator U?
4-Bit Magnitude Comparator, D0016A, LARGE T&R; Generic Part Number: CD74HC85; Manufacturer: Texas Instruments; PartNumber: CD74HC85M96; VCC(Min)(V): 2; VCC(Max)(V): 6; Output Type: CMOS; ICC @ Nom Voltage(Max)(mA): 0.08; Bits(#): 4; F @ Nom Voltage(Max)(Mhz): 70; Rating: Catalog; Technology Family: HC; Schmitt Trigger: No; Output Drive (IOL/IOH)(Max)(mA): 5.2/-5.2; tpd @ Nom Voltage(Max)(ns): 42; DatasheetVersion: SCHS136E; PackageReference: D0016A; Supplier 1: Mouser; Supplier Part Number 1: 595-CD74HC85M96; Supplier 2: Digi-Key; Supplier Part Number 2: 296-9242-2-ND; Supplier 3: Digi-Key; Supplier Part Number 3: 296-9242-1-ND; Supplier 4: Digi-Key; Supplier Part Number 4: 296-9242-6-ND; Input Type: CMOS; Operating Temperature Range(C): -55 to 125; Voltage(Nom)(V): 6; ComponentLink1Description: Manufacturer URL; ComponentLink1URL: http://www.ti.com/; ComponentLink2Description: Datasheet; ComponentLink2URL: http://www.ti.com/lit/ds/symlink/cd74hc85.pdf
footprint D0016A_N (SOIC, 16-Leads, Body 10x4mm, Pitch 1.27mm, IPC Medium Density)
footprint D0016A_M (SOIC, 16-Leads, Body 10x4mm, Pitch 1.27mm, IPC Low Density)
footprint D0016A_L (SOIC, 16-Leads, Body 10x4mm, Pitch 1.27mm, IPC High Density)
pins: 1 B3 (in), 2 (A<B)IN (in), 3 (A=B)IN (in), 4 (A>B)IN (in), 5 (A>B)OUT (out), 6 (A=B)OUT (out), 7 (A<B)OUT (out), 8 GND (power), 9 B0 (in), 10 A0 (in), 11 B1 (in), 12 A1 (in), 13 A2 (in), 14 B2 (in), 15 A3 (in), 16 VCC (power)

## CD74HC85MT
designator U?
4-Bit Magnitude Comparator, D0016A, SMALL T&R; Generic Part Number: CD74HC85; Manufacturer: Texas Instruments; PartNumber: CD74HC85MT; VCC(Min)(V): 2; VCC(Max)(V): 6; Output Type: CMOS; ICC @ Nom Voltage(Max)(mA): 0.08; Bits(#): 4; F @ Nom Voltage(Max)(Mhz): 70; Rating: Catalog; Technology Family: HC; Schmitt Trigger: No; Output Drive (IOL/IOH)(Max)(mA): 5.2/-5.2; tpd @ Nom Voltage(Max)(ns): 42; DatasheetVersion: SCHS136E; PackageReference: D0016A; Supplier 1: Mouser; Supplier Part Number 1: 595-CD74HC85MT; Supplier 2: Digi-Key; Supplier Part Number 2: CD74HC85MT-ND; Input Type: CMOS; Operating Temperature Range(C): -55 to 125; Voltage(Nom)(V): 6; ComponentLink1Description: Manufacturer URL; ComponentLink1URL: http://www.ti.com/; ComponentLink2Description: Datasheet; ComponentLink2URL: http://www.ti.com/lit/ds/symlink/cd74hc85.pdf
footprint D0016A_N (SOIC, 16-Leads, Body 10x4mm, Pitch 1.27mm, IPC Medium Density)
footprint D0016A_M (SOIC, 16-Leads, Body 10x4mm, Pitch 1.27mm, IPC Low Density)
footprint D0016A_L (SOIC, 16-Leads, Body 10x4mm, Pitch 1.27mm, IPC High Density)
pins: 1 B3 (in), 2 (A<B)IN (in), 3 (A=B)IN (in), 4 (A>B)IN (in), 5 (A>B)OUT (out), 6 (A=B)OUT (out), 7 (A<B)OUT (out), 8 GND (power), 9 B0 (in), 10 A0 (in), 11 B1 (in), 12 A1 (in), 13 A2 (in), 14 B2 (in), 15 A3 (in), 16 VCC (power)

## CD74HC85NSR
designator U?
4-Bit Magnitude Comparator, NS0016A, LARGE T&R; Generic Part Number: CD74HC85; Manufacturer: Texas Instruments; PartNumber: CD74HC85NSR; VCC(Min)(V): 2; VCC(Max)(V): 6; Output Type: CMOS; ICC @ Nom Voltage(Max)(mA): 0.08; Bits(#): 4; F @ Nom Voltage(Max)(Mhz): 70; Rating: Catalog; Technology Family: HC; Schmitt Trigger: No; Output Drive (IOL/IOH)(Max)(mA): 5.2/-5.2; tpd @ Nom Voltage(Max)(ns): 42; DatasheetVersion: SCHS136E; PackageReference: NS0016A; Supplier 1: Mouser; Supplier Part Number 1: 595-CD74HC85NSR; Supplier 2: Digi-Key; Supplier Part Number 2: 296-28792-2-ND; Supplier 3: Digi-Key; Supplier Part Number 3: 296-28792-1-ND; Supplier 4: Digi-Key; Supplier Part Number 4: 296-28792-6-ND; Input Type: CMOS; Operating Temperature Range(C): -55 to 125; Voltage(Nom)(V): 6; ComponentLink1Description: Manufacturer URL; ComponentLink1URL: http://www.ti.com/; ComponentLink2Description: Datasheet; ComponentLink2URL: http://www.ti.com/lit/ds/symlink/cd74hc85.pdf
footprint NS0016A_N (SOIC,16-Leads,Body 10.5x5.6mm,Pitch 1.27mm,IPC Medium Density)
footprint NS0016A_M (SOIC,16-Leads,Body 10.5x5.6mm,Pitch 1.27mm,IPC Low Density)
footprint NS0016A_L (SOIC,16-Leads,Body 10.5x5.6mm,Pitch 1.27mm,IPC High Density)
pins: 1 B3 (in), 2 (A<B)IN (in), 3 (A=B)IN (in), 4 (A>B)IN (in), 5 (A>B)OUT (out), 6 (A=B)OUT (out), 7 (A<B)OUT (out), 8 GND (power), 9 B0 (in), 10 A0 (in), 11 B1 (in), 12 A1 (in), 13 A2 (in), 14 B2 (in), 15 A3 (in), 16 VCC (power)

## CD74HC85PW
designator U?
4-Bit Magnitude Comparator, PW0016A, TUBE; Generic Part Number: CD74HC85; Manufacturer: Texas Instruments; PartNumber: CD74HC85PW; VCC(Min)(V): 2; VCC(Max)(V): 6; Output Type: CMOS; ICC @ Nom Voltage(Max)(mA): 0.08; Bits(#): 4; F @ Nom Voltage(Max)(Mhz): 70; Rating: Catalog; Technology Family: HC; Schmitt Trigger: No; Output Drive (IOL/IOH)(Max)(mA): 5.2/-5.2; tpd @ Nom Voltage(Max)(ns): 42; DatasheetVersion: SCHS136E; PackageReference: PW0016A; Supplier 1: Mouser; Supplier Part Number 1: 595-CD74HC85PW; Supplier 2: Digi-Key; Supplier Part Number 2: 296-33122-5-ND; Input Type: CMOS; Operating Temperature Range(C): -55 to 125; Voltage(Nom)(V): 6; ComponentLink1Description: Manufacturer URL; ComponentLink1URL: http://www.ti.com/; ComponentLink2Description: Datasheet; ComponentLink2URL: http://www.ti.com/lit/ds/symlink/cd74hc85.pdf
footprint PW0016A_N (SOP, 16-Leads, Body 5.1x4.5mm, Pitch 0.65mm, IPC Medium Density)
footprint PW0016A_M (SOP, 16-Leads, Body 5.1x4.5mm, Pitch 0.65mm, IPC Low Density)
footprint PW0016A_L (SOP, 16-Leads, Body 5.1x4.5mm, Pitch 0.65mm, IPC High Density)
pins: 1 B3 (in), 2 (A<B)IN (in), 3 (A=B)IN (in), 4 (A>B)IN (in), 5 (A>B)OUT (out), 6 (A=B)OUT (out), 7 (A<B)OUT (out), 8 GND (power), 9 B0 (in), 10 A0 (in), 11 B1 (in), 12 A1 (in), 13 A2 (in), 14 B2 (in), 15 A3 (in), 16 VCC (power)

## CD74HC85PWR
designator U?
4-Bit Magnitude Comparator, PW0016A, LARGE T&R; Generic Part Number: CD74HC85; Manufacturer: Texas Instruments; PartNumber: CD74HC85PWR; VCC(Min)(V): 2; VCC(Max)(V): 6; Output Type: CMOS; ICC @ Nom Voltage(Max)(mA): 0.08; Bits(#): 4; F @ Nom Voltage(Max)(Mhz): 70; Rating: Catalog; Technology Family: HC; Schmitt Trigger: No; Output Drive (IOL/IOH)(Max)(mA): 5.2/-5.2; tpd @ Nom Voltage(Max)(ns): 42; DatasheetVersion: SCHS136E; PackageReference: PW0016A; Supplier 1: Mouser; Supplier Part Number 1: 595-CD74HC85PWR; Supplier 2: Digi-Key; Supplier Part Number 2: 296-41229-2-ND; Supplier 3: Digi-Key; Supplier Part Number 3: 296-41229-1-ND; Supplier 4: Digi-Key; Supplier Part Number 4: 296-41229-6-ND; Input Type: CMOS; Operating Temperature Range(C): -55 to 125; Voltage(Nom)(V): 6; ComponentLink1Description: Manufacturer URL; ComponentLink1URL: http://www.ti.com/; ComponentLink2Description: Datasheet; ComponentLink2URL: http://www.ti.com/lit/ds/symlink/cd74hc85.pdf
footprint PW0016A_N (SOP, 16-Leads, Body 5.1x4.5mm, Pitch 0.65mm, IPC Medium Density)
footprint PW0016A_M (SOP, 16-Leads, Body 5.1x4.5mm, Pitch 0.65mm, IPC Low Density)
footprint PW0016A_L (SOP, 16-Leads, Body 5.1x4.5mm, Pitch 0.65mm, IPC High Density)
pins: 1 B3 (in), 2 (A<B)IN (in), 3 (A=B)IN (in), 4 (A>B)IN (in), 5 (A>B)OUT (out), 6 (A=B)OUT (out), 7 (A<B)OUT (out), 8 GND (power), 9 B0 (in), 10 A0 (in), 11 B1 (in), 12 A1 (in), 13 A2 (in), 14 B2 (in), 15 A3 (in), 16 VCC (power)

## CD74HC85PWT
designator U?
4-Bit Magnitude Comparator, PW0016A, SMALL T&R; Generic Part Number: CD74HC85; Manufacturer: Texas Instruments; PartNumber: CD74HC85PWT; VCC(Min)(V): 2; VCC(Max)(V): 6; Output Type: CMOS; ICC @ Nom Voltage(Max)(mA): 0.08; Bits(#): 4; F @ Nom Voltage(Max)(Mhz): 70; Rating: Catalog; Technology Family: HC; Schmitt Trigger: No; Output Drive (IOL/IOH)(Max)(mA): 5.2/-5.2; tpd @ Nom Voltage(Max)(ns): 42; DatasheetVersion: SCHS136E; PackageReference: PW0016A; Supplier 1: Mouser; Supplier Part Number 1: 595-CD74HC85PWT; Supplier 2: Digi-Key; Supplier Part Number 2: 296-32079-2-ND; Supplier 3: Digi-Key; Supplier Part Number 3: 296-32079-1-ND; Supplier 4: Digi-Key; Supplier Part Number 4: 296-32079-6-ND; Input Type: CMOS; Operating Temperature Range(C): -55 to 125; Voltage(Nom)(V): 6; ComponentLink1Description: Manufacturer URL; ComponentLink1URL: http://www.ti.com/; ComponentLink2Description: Datasheet; ComponentLink2URL: http://www.ti.com/lit/ds/symlink/cd74hc85.pdf
footprint PW0016A_N (SOP, 16-Leads, Body 5.1x4.5mm, Pitch 0.65mm, IPC Medium Density)
footprint PW0016A_M (SOP, 16-Leads, Body 5.1x4.5mm, Pitch 0.65mm, IPC Low Density)
footprint PW0016A_L (SOP, 16-Leads, Body 5.1x4.5mm, Pitch 0.65mm, IPC High Density)
pins: 1 B3 (in), 2 (A<B)IN (in), 3 (A=B)IN (in), 4 (A>B)IN (in), 5 (A>B)OUT (out), 6 (A=B)OUT (out), 7 (A<B)OUT (out), 8 GND (power), 9 B0 (in), 10 A0 (in), 11 B1 (in), 12 A1 (in), 13 A2 (in), 14 B2 (in), 15 A3 (in), 16 VCC (power)

## CD74HC93E
designator U?
High Speed CMOS Logic 4-Bit Binary Ripple Counter, N0014A, TUBE; Generic Part Number: CD74HC93; Manufacturer: Texas Instruments; PartNumber: CD74HC93E; VCC(Min)(V): 2; VCC(Max)(V): 6; Inputs: 1; ICC @ Nom Voltage(Max)(mA): 0.08; Input Type: LVTTL/CMOS; Bits(#): 4; F @ Nom Voltage(Max)(Mhz): 28; Rating: Catalog; Technology Family: HC; Voltage(Nom)(V): 3.3,5; Schmitt Trigger: No; Output Drive (IOL/IOH)(Max)(mA): 5.2/-5.2; tpd @ Nom Voltage(Max)(ns): 52; DatasheetVersion: SCHS138C; PackageReference: N0014A; Supplier 1: Mouser; Supplier Part Number 1: 595-CD74HC93E; Supplier 2: Digi-Key; Supplier Part Number 2: 296-33124-5-ND; Output Type: CMOS; Function: Counter; Operating Temperature Range(C): -55 to 125; Type: Binary; Code_JEDEC: MS-001; ComponentLink1Description: Manufacturer URL; ComponentLink1URL: http://www.ti.com/; ComponentLink2Description: Datasheet; ComponentLink2URL: http://www.ti.com/lit/ds/symlink/cd74hc93.pdf; ComponentLink3Description: Package Specification; ComponentLink3URL: http://www.ti.com/lit/ml/mpdi002c/mpdi002c.pdf
footprint N0014A (DIP, 14-Leads, Body 19.7x6.6mm, Pitch 2.54mm)
part A pins: 1 ~{CP1} (in), 2 MR1 (in), 3 MR2 (in), 5 VCC (power), 8 Q2 (out), 9 Q1 (out), 10 GND (power), 11 Q3 (out), 12 Q0 (out), 14 ~{CP0} (in)
part B pins: 4 NC, 6 NC, 7 NC, 13 NC

## CD74HC93M
designator U?
High Speed CMOS Logic 4-Bit Binary Ripple Counter, D0014A, TUBE; Generic Part Number: CD74HC93; Manufacturer: Texas Instruments; PartNumber: CD74HC93M; VCC(Min)(V): 2; VCC(Max)(V): 6; Inputs: 1; ICC @ Nom Voltage(Max)(mA): 0.08; Input Type: LVTTL/CMOS; Bits(#): 4; F @ Nom Voltage(Max)(Mhz): 28; Rating: Catalog; Technology Family: HC; Voltage(Nom)(V): 3.3,5; Schmitt Trigger: No; Output Drive (IOL/IOH)(Max)(mA): 5.2/-5.2; tpd @ Nom Voltage(Max)(ns): 52; DatasheetVersion: SCHS138C; PackageReference: D0014A; Supplier 1: Mouser; Supplier Part Number 1: 595-CD74HC93M; Supplier 2: Digi-Key; Supplier Part Number 2: 296-33125-5-ND; Output Type: CMOS; Function: Counter; Operating Temperature Range(C): -55 to 125; Type: Binary; Code_JEDEC: MS-012; ComponentLink1Description: Manufacturer URL; ComponentLink1URL: http://www.ti.com/; ComponentLink2Description: Datasheet; ComponentLink2URL: http://www.ti.com/lit/ds/symlink/cd74hc93.pdf; ComponentLink3Description: Package Specification; ComponentLink3URL: http://www.ti.com/lit/ml/mpds177g/mpds177g.pdf
footprint D0014A_N (SOIC, 14-Leads, Body 8.75x4mm, Pitch 1.27mm, IPC Medium Density)
footprint D0014A_M (SOIC, 14-Leads, Body 8.75x4mm, Pitch 1.27mm, IPC Low Density)
footprint D0014A_L (SOIC, 14-Leads, Body 8.75x4mm, Pitch 1.27mm, IPC High Density)
part A pins: 1 ~{CP1} (in), 2 MR1 (in), 3 MR2 (in), 5 VCC (power), 8 Q2 (out), 9 Q1 (out), 10 GND (power), 11 Q3 (out), 12 Q0 (out), 14 ~{CP0} (in)
part B pins: 4 NC, 6 NC, 7 NC, 13 NC

## CD74HC93M96
designator U?
High Speed CMOS Logic 4-Bit Binary Ripple Counter, D0014A, LARGE T&R; Generic Part Number: CD74HC93; Manufacturer: Texas Instruments; PartNumber: CD74HC93M96; VCC(Min)(V): 2; VCC(Max)(V): 6; Inputs: 1; ICC @ Nom Voltage(Max)(mA): 0.08; Input Type: LVTTL/CMOS; Bits(#): 4; F @ Nom Voltage(Max)(Mhz): 28; Rating: Catalog; Technology Family: HC; Voltage(Nom)(V): 3.3,5; Schmitt Trigger: No; Output Drive (IOL/IOH)(Max)(mA): 5.2/-5.2; tpd @ Nom Voltage(Max)(ns): 52; DatasheetVersion: SCHS138C; PackageReference: D0014A; Supplier 1: Mouser; Supplier Part Number 1: 595-CD74HC93M96; Supplier 2: Digi-Key; Supplier Part Number 2: 296-9243-2-ND; Supplier 3: Digi-Key; Supplier Part Number 3: 296-9243-1-ND; Supplier 4: Digi-Key; Supplier Part Number 4: 296-9243-6-ND; Output Type: CMOS; Function: Counter; Operating Temperature Range(C): -55 to 125; Type: Binary; Code_JEDEC: MS-012; ComponentLink1Description: Manufacturer URL; ComponentLink1URL: http://www.ti.com/; ComponentLink2Description: Datasheet; ComponentLink2URL: http://www.ti.com/lit/ds/symlink/cd74hc93.pdf; ComponentLink3Description: Package Specification; ComponentLink3URL: http://www.ti.com/lit/ml/mpds177g/mpds177g.pdf
footprint D0014A_N (SOIC, 14-Leads, Body 8.75x4mm, Pitch 1.27mm, IPC Medium Density)
footprint D0014A_M (SOIC, 14-Leads, Body 8.75x4mm, Pitch 1.27mm, IPC Low Density)
footprint D0014A_L (SOIC, 14-Leads, Body 8.75x4mm, Pitch 1.27mm, IPC High Density)
part A pins: 1 ~{CP1} (in), 2 MR1 (in), 3 MR2 (in), 5 VCC (power), 8 Q2 (out), 9 Q1 (out), 10 GND (power), 11 Q3 (out), 12 Q0 (out), 14 ~{CP0} (in)
part B pins: 4 NC, 6 NC, 7 NC, 13 NC

## CD74HC93MT
designator U?
High Speed CMOS Logic 4-Bit Binary Ripple Counter, D0014A, SMALL T&R; Generic Part Number: CD74HC93; Manufacturer: Texas Instruments; PartNumber: CD74HC93MT; VCC(Min)(V): 2; VCC(Max)(V): 6; Inputs: 1; ICC @ Nom Voltage(Max)(mA): 0.08; Input Type: LVTTL/CMOS; Bits(#): 4; F @ Nom Voltage(Max)(Mhz): 28; Rating: Catalog; Technology Family: HC; Voltage(Nom)(V): 3.3,5; Schmitt Trigger: No; Output Drive (IOL/IOH)(Max)(mA): 5.2/-5.2; tpd @ Nom Voltage(Max)(ns): 52; DatasheetVersion: SCHS138C; PackageReference: D0014A; Supplier 1: Mouser; Supplier Part Number 1: 595-CD74HC93MT; Supplier 2: Digi-Key; Supplier Part Number 2: CD74HC93MT-ND; Output Type: CMOS; Function: Counter; Operating Temperature Range(C): -55 to 125; Type: Binary; Code_JEDEC: MS-012; ComponentLink1Description: Manufacturer URL; ComponentLink1URL: http://www.ti.com/; ComponentLink2Description: Datasheet; ComponentLink2URL: http://www.ti.com/lit/ds/symlink/cd74hc93.pdf; ComponentLink3Description: Package Specification; ComponentLink3URL: http://www.ti.com/lit/ml/mpds177g/mpds177g.pdf
footprint D0014A_N (SOIC, 14-Leads, Body 8.75x4mm, Pitch 1.27mm, IPC Medium Density)
footprint D0014A_M (SOIC, 14-Leads, Body 8.75x4mm, Pitch 1.27mm, IPC Low Density)
footprint D0014A_L (SOIC, 14-Leads, Body 8.75x4mm, Pitch 1.27mm, IPC High Density)
part A pins: 1 ~{CP1} (in), 2 MR1 (in), 3 MR2 (in), 5 VCC (power), 8 Q2 (out), 9 Q1 (out), 10 GND (power), 11 Q3 (out), 12 Q0 (out), 14 ~{CP0} (in)
part B pins: 4 NC, 6 NC, 7 NC, 13 NC

## CD74HC123E
designator U?
High Speed CMOS Logic Dual Retriggerable Monostable Multivibrators with Reset, N0016A, TUBE; Generic Part Number: CD74HC123; Manufacturer: Texas Instruments; PartNumber: CD74HC123E; VCC(Min)(V): 2; VCC(Max)(V): 6; ICC @ Nom Voltage(Max)(mA): 0.08; Input Type: LVTTL/CMOS; F @ Nom Voltage(Max)(Mhz): 70; Rating: Catalog; Technology Family: HC; Voltage(Nom)(V): 3.3,5; Schmitt Trigger: No; Output Drive (IOL/IOH)(Max)(mA): 5.2/-5.2; tpd @ Nom Voltage(Max)(ns): 68; DatasheetVersion: SCHS142F; PackageReference: N0016A; Supplier 1: Mouser; Supplier Part Number 1: 595-CD74HC123E; Supplier 2: Digi-Key; Supplier Part Number 2: 296-9171-5-ND; Output Type: CMOS; Bits(#): 2; Operating Temperature Range(C): -55 to 125; Code_JEDEC: MS-001; ComponentLink1Description: Manufacturer URL; ComponentLink1URL: http://www.ti.com/; ComponentLink2Description: Datasheet; ComponentLink2URL: http://www.ti.com/lit/ds/symlink/cd74hc123.pdf; ComponentLink3Description: Package Specification; ComponentLink3URL: http://www.ti.com/lit/ml/mpdi002c/mpdi002c.pdf
footprint N0016A (DIP, 16-Leads, Body 19.7x6.6mm, Pitch 2.54mm)
part A pins: 1 ~{1A} (in), 2 1B (in), 3 ~{1R} (in), 4 ~{1Q} (out), 13 1Q (out), 14 1CX, 15 1RXCX
part B pins: 5 2Q (out), 6 2CX, 7 2RXCX, 9 ~{2A} (in), 10 2B (in), 11 ~{2R} (in), 12 ~{2Q} (out)
part C pins: 8 GND (power), 16 VCC (power)

## CD74HC123M
designator U?
High Speed CMOS Logic Dual Retriggerable Monostable Multivibrators with Reset, D0016A, TUBE; Generic Part Number: CD74HC123; Manufacturer: Texas Instruments; PartNumber: CD74HC123M; VCC(Min)(V): 2; VCC(Max)(V): 6; ICC @ Nom Voltage(Max)(mA): 0.08; Input Type: LVTTL/CMOS; F @ Nom Voltage(Max)(Mhz): 70; Rating: Catalog; Technology Family: HC; Voltage(Nom)(V): 3.3,5; Schmitt Trigger: No; Output Drive (IOL/IOH)(Max)(mA): 5.2/-5.2; tpd @ Nom Voltage(Max)(ns): 68; DatasheetVersion: SCHS142F; PackageReference: D0016A; Supplier 1: Mouser; Supplier Part Number 1: 595-CD74HC123M; Supplier 2: Digi-Key; Supplier Part Number 2: 296-9172-5-ND; Output Type: CMOS; Bits(#): 2; Operating Temperature Range(C): -55 to 125; Code_JEDEC: MS-012 variation AC; ComponentLink1Description: Manufacturer URL; ComponentLink1URL: http://www.ti.com/; ComponentLink2Description: Datasheet; ComponentLink2URL: http://www.ti.com/lit/ds/symlink/cd74hc123.pdf; ComponentLink3Description: Package Specification; ComponentLink3URL: http://www.ti.com/lit/ml/mpds178g/mpds178g.pdf
footprint D0016A_N (SOIC, 16-Leads, Body 10x4mm, Pitch 1.27mm, IPC Medium Density)
footprint D0016A_M (SOIC, 16-Leads, Body 10x4mm, Pitch 1.27mm, IPC Low Density)
footprint D0016A_L (SOIC, 16-Leads, Body 10x4mm, Pitch 1.27mm, IPC High Density)
part A pins: 1 ~{1A} (in), 2 1B (in), 3 ~{1R} (in), 4 ~{1Q} (out), 13 1Q (out), 14 1CX, 15 1RXCX
part B pins: 5 2Q (out), 6 2CX, 7 2RXCX, 9 ~{2A} (in), 10 2B (in), 11 ~{2R} (in), 12 ~{2Q} (out)
part C pins: 8 GND (power), 16 VCC (power)

## CD74HC123M96
designator U?
High Speed CMOS Logic Dual Retriggerable Monostable Multivibrators with Reset, D0016A, LARGE T&R; Generic Part Number: CD74HC123; Manufacturer: Texas Instruments; PartNumber: CD74HC123M96; VCC(Min)(V): 2; VCC(Max)(V): 6; ICC @ Nom Voltage(Max)(mA): 0.08; Input Type: LVTTL/CMOS; F @ Nom Voltage(Max)(Mhz): 70; Rating: Catalog; Technology Family: HC; Voltage(Nom)(V): 3.3,5; Schmitt Trigger: No; Output Drive (IOL/IOH)(Max)(mA): 5.2/-5.2; tpd @ Nom Voltage(Max)(ns): 68; DatasheetVersion: SCHS142F; PackageReference: D0016A; Supplier 1: Mouser; Supplier Part Number 1: 595-CD74HC123M96; Supplier 2: Digi-Key; Supplier Part Number 2: 296-14508-2-ND; Supplier 3: Digi-Key; Supplier Part Number 3: 296-14508-1-ND; Supplier 4: Digi-Key; Supplier Part Number 4: 296-14508-6-ND; Output Type: CMOS; Bits(#): 2; Operating Temperature Range(C): -55 to 125; Code_JEDEC: MS-012 variation AC; ComponentLink1Description: Manufacturer URL; ComponentLink1URL: http://www.ti.com/; ComponentLink2Description: Datasheet; ComponentLink2URL: http://www.ti.com/lit/ds/symlink/cd74hc123.pdf; ComponentLink3Description: Package Specification; ComponentLink3URL: http://www.ti.com/lit/ml/mpds178g/mpds178g.pdf
footprint D0016A_N (SOIC, 16-Leads, Body 10x4mm, Pitch 1.27mm, IPC Medium Density)
footprint D0016A_M (SOIC, 16-Leads, Body 10x4mm, Pitch 1.27mm, IPC Low Density)
footprint D0016A_L (SOIC, 16-Leads, Body 10x4mm, Pitch 1.27mm, IPC High Density)
part A pins: 1 ~{1A} (in), 2 1B (in), 3 ~{1R} (in), 4 ~{1Q} (out), 13 1Q (out), 14 1CX, 15 1RXCX
part B pins: 5 2Q (out), 6 2CX, 7 2RXCX, 9 ~{2A} (in), 10 2B (in), 11 ~{2R} (in), 12 ~{2Q} (out)
part C pins: 8 GND (power), 16 VCC (power)

## CD74HC123M96G4
designator U?
High Speed CMOS Logic Dual Retriggerable Monostable Multivibrators with Reset, D0016A, LARGE T&R; Generic Part Number: CD74HC123; Manufacturer: Texas Instruments; PartNumber: CD74HC123M96G4; VCC(Min)(V): 2; VCC(Max)(V): 6; ICC @ Nom Voltage(Max)(mA): 0.08; Input Type: LVTTL/CMOS; F @ Nom Voltage(Max)(Mhz): 70; Rating: Catalog; Technology Family: HC; Voltage(Nom)(V): 3.3,5; Schmitt Trigger: No; Output Drive (IOL/IOH)(Max)(mA): 5.2/-5.2; tpd @ Nom Voltage(Max)(ns): 68; DatasheetVersion: SCHS142F; PackageReference: D0016A; Supplier 1: Mouser; Supplier Part Number 1: 595-CD74HC123M96G4; Supplier 2: Digi-Key; Supplier Part Number 2: CD74HC123M96G4-ND; Output Type: CMOS; Bits(#): 2; Operating Temperature Range(C): -55 to 125; Code_JEDEC: MS-012 variation AC; ComponentLink1Description: Manufacturer URL; ComponentLink1URL: http://www.ti.com/; ComponentLink2Description: Datasheet; ComponentLink2URL: http://www.ti.com/lit/ds/symlink/cd74hc123.pdf; ComponentLink3Description: Package Specification; ComponentLink3URL: http://www.ti.com/lit/ml/mpds178g/mpds178g.pdf
footprint D0016A_N (SOIC, 16-Leads, Body 10x4mm, Pitch 1.27mm, IPC Medium Density)
footprint D0016A_M (SOIC, 16-Leads, Body 10x4mm, Pitch 1.27mm, IPC Low Density)
footprint D0016A_L (SOIC, 16-Leads, Body 10x4mm, Pitch 1.27mm, IPC High Density)
part A pins: 1 ~{1A} (in), 2 1B (in), 3 ~{1R} (in), 4 ~{1Q} (out), 13 1Q (out), 14 1CX, 15 1RXCX
part B pins: 5 2Q (out), 6 2CX, 7 2RXCX, 9 ~{2A} (in), 10 2B (in), 11 ~{2R} (in), 12 ~{2Q} (out)
part C pins: 8 GND (power), 16 VCC (power)